# Altium footprint library EE16_transformer.PcbLib: 1 footprints
Each footprint in its own frame and in the unit in brackets; x right, y up, seen from the top. Pads: shape width x height; smd on the part's side, far side on the other; paste and mask are expansions set on the pad; w line width, h text height; cw(c..) or ccw(c..) is an arc to the next point about the centre after c.
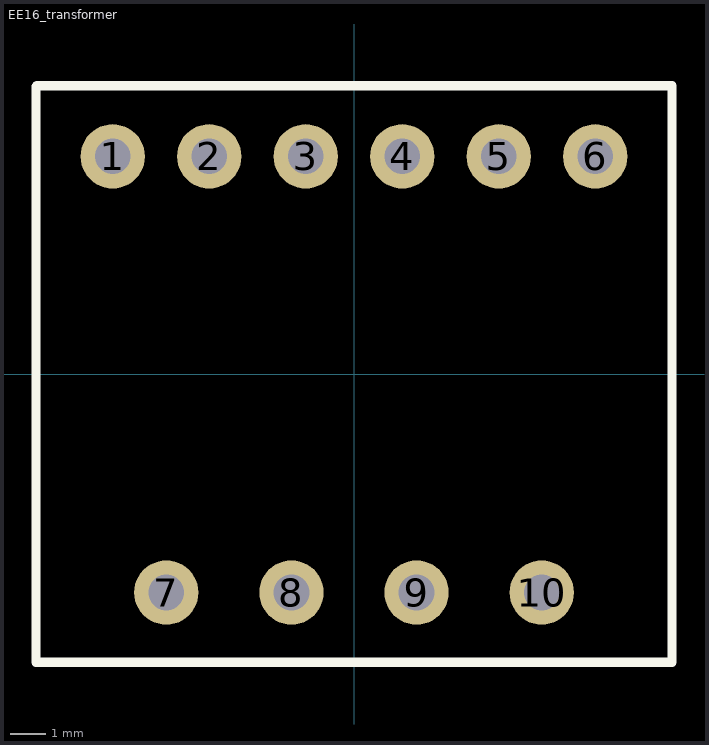
[diagram p0: the footprint, top view; thin cyan lines are the x and y axes]

## EE16_transformer [mm]
pads (10):
  round 1.8 hole 1: 1(-6.75,6.1) 2(-4.05,6.1) 3(-1.35,6.1) 4(1.35,6.1) 5(4.05,6.1) 6(6.75,6.1) 7(-5.25,-6.1) 8(-1.75,-6.1) 9(1.75,-6.1) 10(5.25,-6.1)
Top Overlay:
  lines w0.254: -8.9,8.05 -8.9,-8.05 8.9,-8.05 8.9,8.075 -8.875,8.075
3D body "TI-EE16-1534--3DModel-STEP-269445.STEP": height 16.6, standoff -3.5, extent -8.9,-8.05 8.9,8.05